# EAGLE library part CY8C21334-20 (library PatternAgents-Cypress)
Cypress PSoC® 1 - Programmable System on Chip, M8C Based Source Data: http://www.cypress.com/?mpn=CY8C21334-12PVXE LBR Source: http://www.patternagents.com THIS SOFTWARE IS PROVIDED BY THE CONTRIBUTORS "AS IS" AND WITHOUT ANY EXPRESS OR IMPLIED WARRANTIES, INCLUDING, BUT NOT LIMITED TO, THE IMPLIED WARRANTIES OF MERCHANTABILITY AND FITNESS FOR A PARTICULAR PURPOSE ARE DISCLAIMED. IN NO EVENT SHALL THE COPYRIGHT OWNER OR CONTRIBUTORS BE LIABLE FOR ANY DIRECT, INDIRECT, INCIDENTAL, SPECIAL, EXEMPLARY, OR CONSEQUENTIAL DAMAGES (INCLUDING, BUT NOT LIMITED TO, PROCUREMENT OF SUBSTITUTE GOODS OR SERVICES; LOSS OF USE, DATA, OR PROFITS; OR BUSINESS INTERRUPTION) HOWEVER CAUSED AND ON ANY THEORY OF LIABILITY, WHETHER IN CONTRACT, STRICT LIABILITY, OR TORT (INCLUDING NEGLIGENCE OR OTHERWISE) ARISING IN ANY WAY OUT OF THE USE OF THIS SOFTWARE, EVEN IF ADVISED OF THE POSSIBILITY OF SUCH DAMAGE.
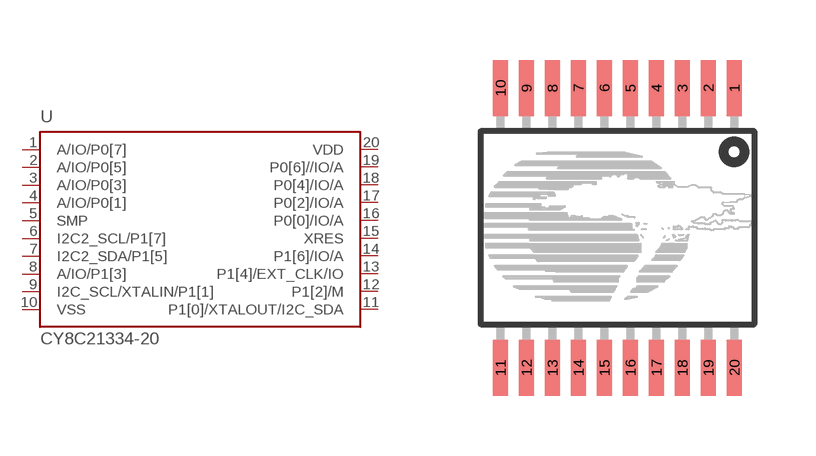
[diagram p8: symbol with the pads of SSOP20; footprint SSOP20]

Designator prefix U

## CY8C21334-20 (MPN: CY8C21334-12PVXE)  [SSOP20]
1  A/IO/P0[7]
2  A/IO/P0[5]
3  A/IO/P0[3]
4  A/IO/P0[1]
5  SMP  pwr
6  I2C2_SCL/P1[7]
7  I2C2_SDA/P1[5]
8  A/IO/P1[3]
9  I2C_SCL/XTALIN/P1[1]
10  VSS  pwr
11  P1[0]/XTALOUT/I2C_SDA
12  P1[2]/M
13  P1[4]/EXT_CLK/IO
14  P1[6]/IO/A
15  XRES  in
16  P0[0]/IO/A
17  P0[2]/IO/A
18  P0[4]/IO/A
19  P0[6]//IO/A
20  VDD  pwr

## Footprint SSOP20 (pad centres in mm)
SSOP-20 Shrink Small Outline Package with 20 pins 20LD SSOP .210 mil Data Source: http://www.cypress.com/?docID=1369 LBR Source: http://www.patternagents.com THIS SOFTWARE IS PROVIDED BY THE CONTRIBUTORS "AS IS" AND WITHOUT ANY EXPRESS OR IMPLIED WARRANTIES, INCLUDING, BUT NOT LIMITED TO, THE IMPLIED WARRANTIES OF MERCHANTABILITY AND FITNESS FOR A PARTICULAR PURPOSE ARE DISCLAIMED. IN NO EVENT SHALL THE COPYRIGHT OWNER OR CONTRIBUTORS BE LIABLE FOR ANY DIRECT, INDIRECT, INCIDENTAL, SPECIAL, EXEMPLARY, OR CONSEQUENTIAL DAMAGES (INCLUDING, BUT NOT LIMITED TO, PROCUREMENT OF SUBSTITUTE GOODS OR SERVICES; LOSS OF USE, DATA, OR PROFITS; OR BUSINESS INTERRUPTION) HOWEVER CAUSED AND ON ANY THEORY OF LIABILITY, WHETHER IN CONTRACT, STRICT LIABILITY, OR TORT (INCLUDING NEGLIGENCE OR OTHERWISE) ARISING IN ANY WAY OUT OF THE USE OF THIS SOFTWARE, EVEN IF ADVISED OF THE POSSIBILITY OF SUCH DAMAGE.
smd 0.38 x 1.4: 1 2.925,3.5; 2 2.275,3.5; 3 1.625,3.5; 4 0.975,3.5; 5 0.325,3.5; 6 -0.325,3.5; 7 -0.975,3.5; 8 -1.625,3.5; 9 -2.275,3.5; 10 -2.925,3.5; 11 -2.925,-3.5; 12 -2.275,-3.5; 13 -1.625,-3.5; 14 -0.975,-3.5; 15 -0.325,-3.5; 16 0.325,-3.5; 17 0.975,-3.5; 18 1.625,-3.5; 19 2.275,-3.5; 20 2.925,-3.5